# EAGLE library part FT232HL (library BaseApp)
Digikey No. :- __768-1101-1-ND__
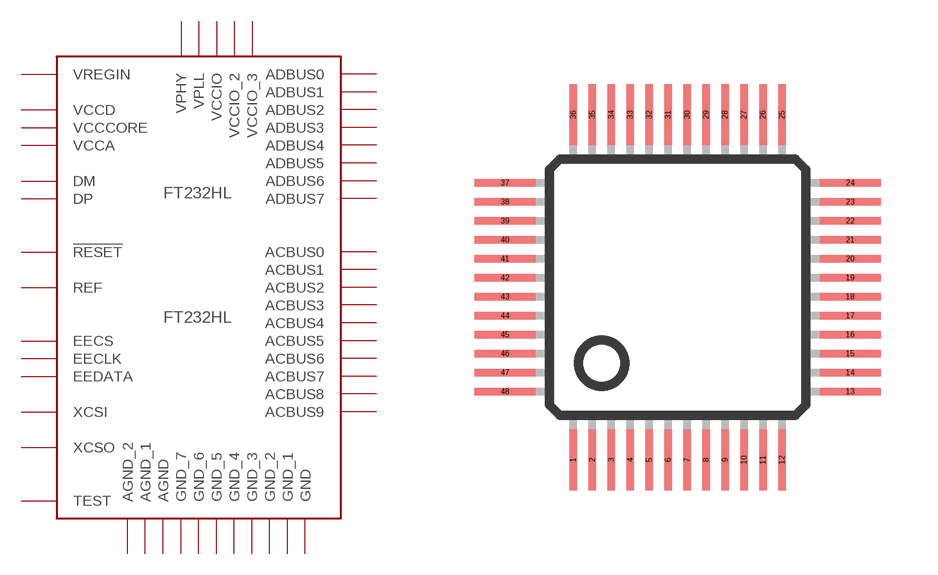
[diagram p7: symbol with the pads of 48LQFP; footprint 48LQFP]

Designator prefix FT232HL

## FT232HL  [48LQFP]
1  XCSI
2  XCSO
3  VPHY
4  AGND_2
5  REF
6  DM
7  DP
8  VPLL
9  AGND_1
10  GND_7
11  GND_6
12  VCCIO
13  ADBUS0
14  ADBUS1
15  ADBUS2
16  ADBUS3
17  ADBUS4
18  ADBUS5
19  ADBUS6
20  ADBUS7
21  ACBUS0
22  GND_5
23  GND_4
24  VCCIO_2
25  ACBUS1
26  ACBUS2
27  ACBUS3
28  ACBUS4
29  ACBUS5
30  ACBUS6
31  ACBUS7
32  ACBUS8
33  ACBUS9
34  !RESET
35  GND_3
36  GND_2
37  VCCA
38  VCCCORE
39  VCCD
40  VREGIN
41  AGND
42  TEST
43  EEDATA
44  EECLK
45  EECS
46  VCCIO_3
47  GND_1
48  GND

## Footprint 48LQFP (pad centres in mm)
smd 0.2 x 1.6: 1 -3.004,-4.867; 2 -2.504,-4.867; 3 -2.004,-4.867; 4 -1.504,-4.867; 5 -1.004,-4.867; 6 -0.504,-4.867; 7 -0.004,-4.867; 8 0.496,-4.867; 9 0.996,-4.867; 10 1.496,-4.867; 11 1.996,-4.867; 12 2.496,-4.867; 25 2.496,4.232; 26 1.996,4.232; 27 1.496,4.232; 28 0.996,4.232; 29 0.496,4.232; 30 -0.004,4.232; 31 -0.504,4.232; 32 -1.004,4.232; 33 -1.504,4.232; 34 -2.004,4.232; 35 -2.504,4.232; 36 -3.004,4.232
smd 1.6 x 0.2: 13 4.296,-3.067; 14 4.296,-2.567; 15 4.296,-2.067; 16 4.296,-1.567; 17 4.296,-1.067; 18 4.296,-0.568; 19 4.296,-0.068; 20 4.296,0.432; 21 4.296,0.932; 22 4.296,1.433; 23 4.296,1.933; 24 4.296,2.433; 37 -4.804,2.433; 38 -4.804,1.933; 39 -4.804,1.433; 40 -4.804,0.932; 41 -4.804,0.432; 42 -4.804,-0.068; 43 -4.804,-0.568; 44 -4.804,-1.067; 45 -4.804,-1.567; 46 -4.804,-2.067; 47 -4.804,-2.567; 48 -4.804,-3.067